# Altium schematic symbol library Anthennas.SchLib: 3 symbols
Pins are listed as number, name and electrical type; pins without a type are passive.

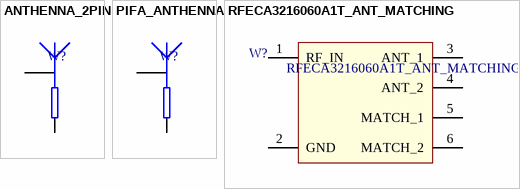
[diagram p0: symbols ANTHENNA_2PIN to RFECA3216060A1T_ANT_MATCHING]

## ANTHENNA_2PIN
designator W?  (no BOM)
footprint PIFA_1800MHz (WIFI PCB Antenna mod.2)
pins: 1, 2

## PIFA_ANTHENNA
designator W?  (no BOM)
footprint PIFA_1800MHz (WIFI PCB Antenna mod.2)
pins: 1, 2

## RFECA3216060A1T_ANT_MATCHING
designator W?
MP: LM324; Package: None; Price: None; Availability: Unavailable; Value: *
footprint RFECA3216060A1T_ANT_MATCHING
pins: 1 RF_IN "Input sensor port", 2 GND "Output active high or low selection,  1=>Active low; 0=>Active high", 3 ANT_1 "Ground", 4 ANT_2 "Supply voltage", 5 MATCH_1 "CMOS output pin", 6 MATCH_2 "CMOS output pin"